# Altium footprint library Common-Parts-Library.PcbLib: 530 footprints (part 22 of 34)
Each footprint in its own frame and in the unit in brackets; x right, y up, seen from the top. Pads: shape width x height; smd on the part's side, far side on the other; paste and mask are expansions set on the pad; w line width, h text height; cw(c..) or ccw(c..) is an arc to the next point about the centre after c.
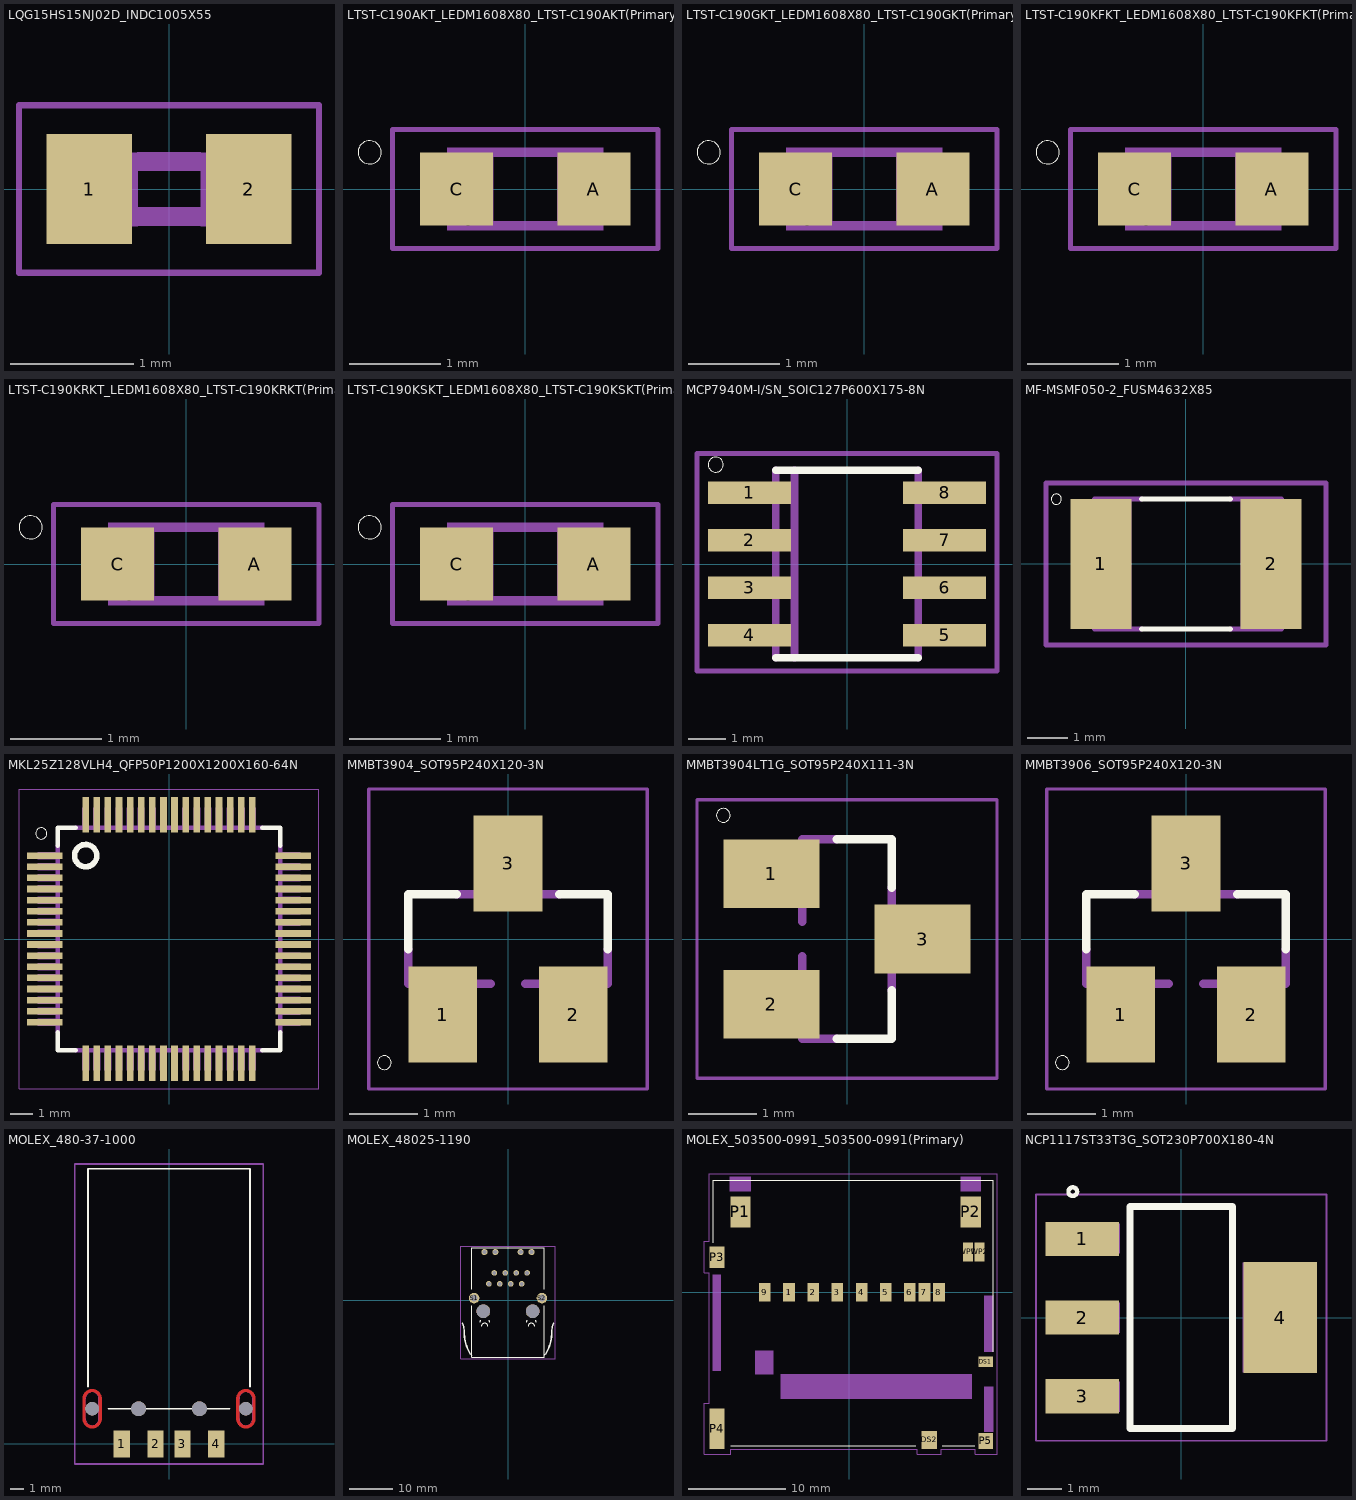
[diagram p21: the footprints below, top view; thin cyan lines are the x and y axes]

## LQG15HS15NJ02D_INDC1005X55 [mm]
pads (2):
  rect 0.7x0.9 smd: 1(-0.65,0) 2(0.65,0)
Mechanical 1:
  region: 0.26,0.295 0.559,0.295 0.559,-0.306 0.26,-0.306
  region: -0.555,0.295 -0.254,0.295 -0.254,-0.306 -0.555,-0.306
  lines w0.051: -1.223,-0.683 -1.223,0.683 1.223,0.683 1.223,-0.683 -1.223,-0.683
  lines w0.152: -0.245,-0.224 0.245,-0.224 ; -0.245,0.224 0.245,0.224

## LTST-C190AKT_LEDM1608X80_LTST-C190AKT(Primary) [mm]
pads (2):
  rect 0.8x0.8 smd: A(0.75,0) C(-0.75,0)
Top Overlay:
  circle w0: c-1.7,0.4 r0.127
Mechanical 1:
  circle w0.051: c-0.625,-0.35 r0.075
  region: 0.551,0.176 0.551,0.275 0.65,0.275 0.65,0.176
  region: 0.55,-0.275 0.55,-0.176 0.651,-0.176 0.651,-0.275
  region: 0.35,-0.275 0.35,0.275 0.575,0.275 0.575,-0.275
  region: 0.351,0.251 0.351,0.449 0.851,0.449 0.851,0.251
  region: 0.35,-0.45 0.35,-0.251 0.851,-0.251 0.851,-0.45
  region: -0.576,-0.451 -0.576,0.451 -0.351,0.451 -0.351,-0.451
  region: -0.851,0.249 -0.851,0.452 -0.552,0.452 -0.552,0.249
  region: -0.726,-0.451 -0.726,-0.4 -0.35,-0.4 -0.35,-0.451
  region: -0.6,-0.275 -0.6,-0.225 -0.55,-0.225 -0.55,-0.275
  region: -0.852,-0.452 -0.852,-0.249 -0.701,-0.249 -0.701,-0.452
  lines w0.05: -1.45,-0.65 -1.45,0.65 1.45,0.65 1.45,-0.65 -1.45,-0.65
  lines w0.051: 0.825,-0.275 cw(c0.825,0) 0.825,0.275
  lines w0.102: -0.8,-0.3 ccw(c-0.826,0) -0.8,0.3 ; -0.375,-0.4 0.35,-0.4 ; -0.35,0.4 0.35,0.4

## LTST-C190GKT_LEDM1608X80_LTST-C190GKT(Primary) [mm]
pads (2):
  rect 0.8x0.8 smd: A(0.75,0) C(-0.75,0)
Top Overlay:
  circle w0: c-1.7,0.4 r0.127
Mechanical 1:
  circle w0.051: c-0.625,-0.35 r0.075
  region: 0.551,0.176 0.551,0.274 0.651,0.274 0.651,0.176
  region: 0.55,-0.275 0.55,-0.176 0.651,-0.176 0.651,-0.275
  region: 0.35,-0.275 0.35,0.275 0.575,0.275 0.575,-0.275
  region: 0.351,0.251 0.351,0.449 0.851,0.449 0.851,0.251
  region: 0.35,-0.45 0.35,-0.251 0.851,-0.251 0.851,-0.45
  region: -0.576,-0.451 -0.576,0.451 -0.351,0.451 -0.351,-0.451
  region: -0.851,0.249 -0.851,0.451 -0.551,0.451 -0.551,0.249
  region: -0.725,-0.45 -0.725,-0.4 -0.35,-0.4 -0.35,-0.45
  region: -0.601,-0.276 -0.601,-0.224 -0.551,-0.224 -0.551,-0.276
  region: -0.851,-0.451 -0.851,-0.25 -0.7,-0.25 -0.7,-0.451
  lines w0.05: -1.45,-0.65 -1.45,0.65 1.45,0.65 1.45,-0.65 -1.45,-0.65
  lines w0.051: 0.825,-0.275 cw(c0.825,0) 0.825,0.275
  lines w0.102: -0.8,-0.3 ccw(c-0.826,0) -0.8,0.3 ; -0.375,-0.4 0.35,-0.4 ; -0.35,0.4 0.35,0.4

## LTST-C190KFKT_LEDM1608X80_LTST-C190KFKT(Primary) [mm]
pads (2):
  rect 0.8x0.8 smd: A(0.75,0) C(-0.75,0)
Top Overlay:
  circle w0: c-1.7,0.4 r0.127
Mechanical 1:
  circle w0.051: c-0.625,-0.35 r0.075
  region: 0.55,0.175 0.55,0.275 0.65,0.275 0.65,0.175
  region: 0.55,-0.275 0.55,-0.176 0.651,-0.176 0.651,-0.275
  region: 0.35,-0.275 0.35,0.275 0.575,0.275 0.575,-0.275
  region: 0.351,0.251 0.351,0.45 0.85,0.45 0.85,0.251
  region: 0.35,-0.45 0.35,-0.251 0.851,-0.251 0.851,-0.45
  region: -0.576,-0.451 -0.576,0.451 -0.351,0.451 -0.351,-0.451
  region: -0.851,0.249 -0.851,0.451 -0.551,0.451 -0.551,0.249
  region: -0.726,-0.451 -0.726,-0.4 -0.35,-0.4 -0.35,-0.451
  region: -0.601,-0.276 -0.601,-0.225 -0.55,-0.225 -0.55,-0.276
  region: -0.851,-0.451 -0.851,-0.25 -0.7,-0.25 -0.7,-0.451
  lines w0.05: -1.45,-0.65 -1.45,0.65 1.45,0.65 1.45,-0.65 -1.45,-0.65
  lines w0.051: 0.825,-0.275 cw(c0.825,0) 0.825,0.275
  lines w0.102: -0.8,-0.3 ccw(c-0.826,0) -0.8,0.3 ; -0.375,-0.4 0.35,-0.4 ; -0.35,0.4 0.35,0.4

## LTST-C190KRKT_LEDM1608X80_LTST-C190KRKT(Primary) [mm]
pads (2):
  rect 0.8x0.8 smd: A(0.75,0) C(-0.75,0)
Top Overlay:
  circle w0: c-1.7,0.4 r0.127
Mechanical 1:
  circle w0.051: c-0.625,-0.35 r0.075
  region: 0.551,0.176 0.551,0.275 0.65,0.275 0.65,0.176
  region: 0.55,-0.275 0.55,-0.176 0.651,-0.176 0.651,-0.275
  region: 0.35,-0.275 0.35,0.275 0.575,0.275 0.575,-0.275
  region: 0.351,0.251 0.351,0.449 0.851,0.449 0.851,0.251
  region: 0.35,-0.45 0.35,-0.251 0.851,-0.251 0.851,-0.45
  region: -0.575,-0.45 -0.575,0.45 -0.35,0.45 -0.35,-0.45
  region: -0.851,0.249 -0.851,0.452 -0.552,0.452 -0.552,0.249
  region: -0.727,-0.452 -0.727,-0.4 -0.35,-0.4 -0.35,-0.452
  region: -0.601,-0.276 -0.601,-0.224 -0.551,-0.224 -0.551,-0.276
  region: -0.85,-0.45 -0.85,-0.25 -0.7,-0.25 -0.7,-0.45
  lines w0.05: -1.45,-0.65 -1.45,0.65 1.45,0.65 1.45,-0.65 -1.45,-0.65
  lines w0.051: 0.825,-0.275 cw(c0.825,0) 0.825,0.275
  lines w0.102: -0.8,-0.3 ccw(c-0.826,0) -0.8,0.3 ; -0.375,-0.4 0.35,-0.4 ; -0.35,0.4 0.35,0.4

## LTST-C190KSKT_LEDM1608X80_LTST-C190KSKT(Primary) [mm]
pads (2):
  rect 0.8x0.8 smd: A(0.75,0) C(-0.75,0)
Top Overlay:
  circle w0: c-1.7,0.4 r0.127
Mechanical 1:
  circle w0.051: c-0.625,-0.35 r0.075
  region: 0.551,0.176 0.551,0.275 0.65,0.275 0.65,0.176
  region: 0.55,-0.275 0.55,-0.176 0.651,-0.176 0.651,-0.275
  region: 0.35,-0.275 0.35,0.275 0.575,0.275 0.575,-0.275
  region: 0.351,0.251 0.351,0.45 0.85,0.45 0.85,0.251
  region: 0.35,-0.45 0.35,-0.251 0.851,-0.251 0.851,-0.45
  region: -0.577,-0.452 -0.577,0.451 -0.351,0.451 -0.351,-0.452
  region: -0.851,0.249 -0.851,0.452 -0.552,0.452 -0.552,0.249
  region: -0.726,-0.451 -0.726,-0.4 -0.35,-0.4 -0.35,-0.451
  region: -0.6,-0.275 -0.6,-0.225 -0.55,-0.225 -0.55,-0.275
  region: -0.85,-0.45 -0.85,-0.25 -0.7,-0.25 -0.7,-0.45
  lines w0.05: -1.45,-0.65 -1.45,0.65 1.45,0.65 1.45,-0.65 -1.45,-0.65
  lines w0.051: 0.825,-0.275 cw(c0.825,0) 0.825,0.275
  lines w0.102: -0.8,-0.3 ccw(c-0.826,0) -0.8,0.3 ; -0.375,-0.4 0.35,-0.4 ; -0.35,0.4 0.35,0.4

## MCP7940M-I/SN_SOIC127P600X175-8N [mm]
pads (8):
  rect 2.2x0.6 smd: 1(-2.6,1.905) 2(-2.6,0.635) 3(-2.6,-0.635) 4(-2.6,-1.905) 5(2.6,-1.905) 6(2.6,-0.635) 7(2.6,0.635) 8(2.6,1.905)
Top Overlay:
  circle w0: c-3.5,2.65 r0.2
  lines w0.203: -1.9,-2.5 1.9,-2.5 ; -1.9,2.5 1.9,2.5
Mechanical 1:
  region: 3.101,2.149 3.101,1.664 2.004,1.664 2.004,2.149
  region: 3.102,0.878 3.102,0.392 2.002,0.392 2.002,0.878
  region: 3.103,-0.393 3.103,-0.879 2.001,-0.879 2.001,-0.393
  region: 3.107,-1.667 3.107,-2.15 2,-2.15 2,-1.667
  region: -2,-1.66 -2,-2.156 -3.106,-2.156 -3.106,-1.66
  region: -2.001,-0.389 -2.001,-0.883 -3.103,-0.883 -3.103,-0.389
  region: -2.004,0.884 -2.004,0.386 -3.104,0.386 -3.104,0.884
  region: -2.003,2.153 -2.003,1.659 -3.101,1.659 -3.101,2.153
  lines w0.127: -4,-2.85 -4,2.95 4,2.95 4,-2.85 -4,-2.85
  lines w0.203: -1.9,-2.5 -1.9,2.5 ; -1.4,-2.5 -1.4,2.5 ; 1.9,-2.5 1.9,2.5

## MF-MSMF050-2_FUSM4632X85 [mm]
pads (2):
  rect 1.5x3.2 smd: 1(-2.1,0) 2(2.1,0)
Top Overlay:
  circle w0: c-3.2,1.6 r0.127
  lines w0.127: -1.1,-1.6 1.1,-1.6 ; -1.1,1.6 1.1,1.6
Mechanical 1:
  region: 1.35,1.6 1.35,-1.6 2.35,-1.6 2.35,-0.5 2.337,-0.5 2.311,-0.499 2.285,-0.496 2.259,-0.492 2.233,-0.486 2.208,-0.48 2.183,-0.471 2.159,-0.462 2.135,-0.451 2.111,-0.44 2.089,-0.426 2.067,-0.412 2.046,-0.397 2.025,-0.38 2.006,-0.363 1.987,-0.344 1.97,-0.325 1.953,-0.304 1.938,-0.283 1.924,-0.261 1.91,-0.239 1.899,-0.215 1.888,-0.191 1.879,-0.167 1.87,-0.142 1.864,-0.117 1.858,-0.091 1.854,-0.065 1.851,-0.039 1.85,-0.013 1.85,0 1.85,0.013 1.851,0.039 1.854,0.065 1.858,0.091 1.864,0.117 1.87,0.142 1.879,0.167 1.888,0.191 1.899,0.215 1.91,0.239 1.924,0.261 1.938,0.283 1.953,0.304 1.97,0.325 1.987,0.344 2.006,0.363 2.025,0.38 2.046,0.397 2.067,0.412 2.089,0.426 2.111,0.44 2.135,0.451 2.159,0.462 2.183,0.471 2.208,0.48 2.233,0.486 2.259,0.492 2.285,0.496 2.311,0.499 2.337,0.5 2.35,0.5 2.35,1.6
  region: -1.35,1.6 -2.25,1.6 -2.25,0.5 -2.237,0.5 -2.211,0.499 -2.185,0.496 -2.159,0.492 -2.133,0.486 -2.108,0.48 -2.083,0.471 -2.059,0.462 -2.035,0.451 -2.011,0.44 -1.989,0.426 -1.967,0.412 -1.946,0.397 -1.925,0.38 -1.906,0.363 -1.887,0.344 -1.87,0.325 -1.853,0.304 -1.838,0.283 -1.824,0.261 -1.81,0.239 -1.799,0.215 -1.788,0.191 -1.779,0.167 -1.77,0.142 -1.764,0.117 -1.758,0.091 -1.754,0.065 -1.751,0.039 -1.75,0.013 -1.75,0 -1.75,-0.013 -1.751,-0.039 -1.754,-0.065 -1.758,-0.091 -1.764,-0.117 -1.77,-0.142 -1.779,-0.167 -1.788,-0.191 -1.799,-0.215 -1.81,-0.239 -1.824,-0.261 -1.838,-0.283 -1.853,-0.304 -1.87,-0.325 -1.887,-0.344 -1.906,-0.363 -1.925,-0.38 -1.946,-0.397 -1.967,-0.412 -1.989,-0.426 -2.011,-0.44 -2.035,-0.451 -2.059,-0.462 -2.083,-0.471 -2.108,-0.48 -2.133,-0.486 -2.159,-0.492 -2.185,-0.496 -2.211,-0.499 -2.237,-0.5 -2.25,-0.5 -2.25,-1.6 -1.35,-1.6
  lines w0.127: -1.1,-1.6 -2.25,-1.6 -2.25,-0.5 ccw(c-2.25,0) -2.25,0.5 -2.25,1.6 -1.1,1.6 ; 1.1,-1.6 2.35,-1.6 2.35,-0.5 cw(c2.35,0) 2.35,0.5 2.35,1.6 1.1,1.6 ; -3.45,-2 3.45,-2 3.45,2 -3.45,2 -3.45,-2

## MKL25Z128VLH4_QFP50P1200X1200X160-64N [mm]
pads (64):
  rect 1.6x0.3 smd: 1(-5.6,3.75) 2(-5.6,3.25) 3(-5.6,2.75) 4(-5.6,2.25) 5(-5.6,1.75) 6(-5.6,1.25) 7(-5.6,0.75) 8(-5.6,0.25) 9(-5.6,-0.25) 10(-5.6,-0.75) 11(-5.6,-1.25) 12(-5.6,-1.75) 13(-5.6,-2.25) 14(-5.6,-2.75) 15(-5.6,-3.25) 16(-5.6,-3.75) 33(5.6,-3.75) 34(5.6,-3.25) 35(5.6,-2.75) 36(5.6,-2.25) 37(5.6,-1.75) 38(5.6,-1.25) 39(5.6,-0.75) 40(5.6,-0.25) 41(5.6,0.25) 42(5.6,0.75) 43(5.6,1.25) 44(5.6,1.75) 45(5.6,2.25) 46(5.6,2.75) 47(5.6,3.25) 48(5.6,3.75)
  rect 0.3x1.6 smd: 17(-3.75,-5.6) 18(-3.25,-5.6) 19(-2.75,-5.6) 20(-2.25,-5.6) 21(-1.75,-5.6) 22(-1.25,-5.6) 23(-0.75,-5.6) 24(-0.25,-5.6) 25(0.25,-5.6) 26(0.75,-5.6) 27(1.25,-5.6) 28(1.75,-5.6) 29(2.25,-5.6) 30(2.75,-5.6) 31(3.25,-5.6) 32(3.75,-5.6) 49(3.75,5.6) 50(3.25,5.6) 51(2.75,5.6) 52(2.25,5.6) 53(1.75,5.6) 54(1.25,5.6) 55(0.75,5.6) 56(0.25,5.6) 57(-0.25,5.6) 58(-0.75,5.6) 59(-1.25,5.6) 60(-1.75,5.6) 61(-2.25,5.6) 62(-2.75,5.6) 63(-3.25,5.6) 64(-3.75,5.6)
Top Overlay:
  circle w0: c-5.75,4.75 r0.254
  circle w0.254: c-3.75,3.75 r0.5
  lines w0.203: -5,-4.2 -5,-5 -4.2,-5 ; -5,4.2 -5,5 -4.2,5 ; 4.2,-5 5,-5 5,-4.2 ; 4.2,5 5,5 5,4.2
Mechanical 1:
  drawing of 72 lines, arcs and shapes, not listed

## MMBT3904_SOT95P240X120-3N [mm]
pads (3):
  rect 1x1.4 smd: 1(-0.95,-1.1) 2(0.95,-1.1) 3(0,1.1)
Top Overlay:
  circle w0: c-1.8,-1.8 r0.1
  lines w0.127: -1.45,-0.15 -1.45,0.65 -0.75,0.65 ; 0.75,0.65 1.45,0.65 1.45,-0.15
Mechanical 1:
  region: -1.171,-0.711 -0.711,-0.711 -0.711,-1.298 -1.171,-1.298
  region: 0.713,-0.711 1.168,-0.711 1.168,-1.298 0.713,-1.298
  region: -0.229,1.295 0.229,1.295 0.229,0.712 -0.229,0.712
  lines w0.051: -2.023,-2.183 -2.023,2.183 2.023,2.183 2.023,-2.183 -2.023,-2.183
  lines w0.127: -1.45,-0.15 -1.45,-0.65 -0.25,-0.65 ; -0.75,0.65 0.75,0.65 ; 0.25,-0.65 1.45,-0.65 1.45,-0.15

## MMBT3904LT1G_SOT95P240X111-3N [mm]
pads (3):
  rect 1.4x1 smd: 1(-1.1,0.95) 2(-1.1,-0.95) 3(1.1,0)
Top Overlay:
  circle w0: c-1.8,1.8 r0.1
  lines w0.127: -0.15,-1.45 0.65,-1.45 0.65,-0.75 ; -0.15,1.45 0.65,1.45 0.65,0.75
Mechanical 1:
  region: -0.713,1.171 -0.713,0.711 -1.296,0.711 -1.296,1.171
  region: -0.711,-0.711 -0.711,-1.171 -1.298,-1.171 -1.298,-0.711
  region: 1.296,0.228 1.296,-0.228 0.712,-0.228 0.712,0.228
  lines w0.051: -2.183,-2.023 2.183,-2.023 2.183,2.023 -2.183,2.023 -2.183,-2.023
  lines w0.127: -0.65,-0.25 -0.65,-1.45 -0.15,-1.45 ; -0.65,0.25 -0.65,1.45 -0.15,1.45 ; 0.65,-0.75 0.65,0.75

## MMBT3906_SOT95P240X120-3N [mm]
pads (3):
  rect 1x1.4 smd: 1(-0.95,-1.1) 2(0.95,-1.1) 3(0,1.1)
Top Overlay:
  circle w0: c-1.8,-1.8 r0.1
  lines w0.127: -1.45,-0.15 -1.45,0.65 -0.75,0.65 ; 0.75,0.65 1.45,0.65 1.45,-0.15
Mechanical 1:
  region: -1.171,-0.711 -0.711,-0.711 -0.711,-1.298 -1.171,-1.298
  region: 0.713,-0.711 1.168,-0.711 1.168,-1.299 0.713,-1.299
  region: -0.229,1.295 0.229,1.295 0.229,0.713 -0.229,0.713
  lines w0.051: -2.023,-2.183 -2.023,2.183 2.023,2.183 2.023,-2.183 -2.023,-2.183
  lines w0.127: -1.45,-0.15 -1.45,-0.65 -0.25,-0.65 ; -0.75,0.65 0.75,0.65 ; 0.25,-0.65 1.45,-0.65 1.45,-0.15

## MOLEX_480-37-1000 [mm]
pads (8):
  rect 1.2x2 smd: 1(-3.5,0) 2(-1,0) 3(1,0) 4(3.5,0)
  round 1 hole 1 unplated: None(-5.7,2.6) None(5.7,2.6)
  round 1.1 hole 1.1 unplated: None(-2.25,2.6) None(2.25,2.6)
Top Layer:
  region: -5.7,3.85 -5.7,4.05 -5.682,4.05 -5.645,4.048 -5.609,4.044 -5.572,4.039 -5.537,4.031 -5.501,4.021 -5.466,4.01 -5.432,3.997 -5.399,3.982 -5.366,3.965 -5.334,3.947 -5.303,3.927 -5.274,3.906 -5.245,3.882 -5.218,3.858 -5.192,3.832 -5.168,3.805 -5.144,3.776 -5.123,3.747 -5.103,3.716 -5.085,3.684 -5.068,3.651 -5.053,3.618 -5.04,3.584 -5.029,3.549 -5.019,3.513 -5.011,3.478 -5.006,3.441 -5.002,3.405 -5,3.368 -5,3.35 -5,1.85 -5,1.832 -5.002,1.795 -5.006,1.759 -5.011,1.722 -5.019,1.687 -5.029,1.651 -5.04,1.616 -5.053,1.582 -5.068,1.549 -5.085,1.516 -5.103,1.484 -5.123,1.453 -5.144,1.424 -5.168,1.395 -5.192,1.368 -5.218,1.342 -5.245,1.318 -5.274,1.294 -5.303,1.273 -5.334,1.253 -5.366,1.235 -5.399,1.218 -5.432,1.203 -5.466,1.19 -5.501,1.179 -5.537,1.169 -5.572,1.161 -5.609,1.156 -5.645,1.152 -5.682,1.15 -5.7,1.15 -5.7,1.35 -5.687,1.35 -5.661,1.351 -5.635,1.354 -5.609,1.358 -5.583,1.364 -5.558,1.37 -5.533,1.379 -5.509,1.388 -5.485,1.399 -5.461,1.41 -5.439,1.424 -5.417,1.438 -5.396,1.453 -5.375,1.47 -5.356,1.487 -5.337,1.506 -5.32,1.525 -5.303,1.546 -5.288,1.567 -5.274,1.589 -5.26,1.611 -5.249,1.635 -5.238,1.659 -5.229,1.683 -5.22,1.708 -5.214,1.733 -5.208,1.759 -5.204,1.785 -5.201,1.811 -5.2,1.837 -5.2,1.85 -5.2,3.35 -5.2,3.363 -5.201,3.389 -5.204,3.415 -5.208,3.441 -5.214,3.467 -5.22,3.492 -5.229,3.517 -5.238,3.541 -5.249,3.565 -5.26,3.589 -5.274,3.611 -5.288,3.633 -5.303,3.654 -5.32,3.675 -5.337,3.694 -5.356,3.713 -5.375,3.73 -5.396,3.747 -5.417,3.762 -5.439,3.776 -5.461,3.79 -5.485,3.801 -5.509,3.812 -5.533,3.821 -5.558,3.83 -5.583,3.836 -5.609,3.842 -5.635,3.846 -5.661,3.849 -5.687,3.85
  region: -5.7,1.35 -5.7,1.15 -5.718,1.15 -5.755,1.152 -5.791,1.156 -5.828,1.161 -5.863,1.169 -5.899,1.179 -5.934,1.19 -5.968,1.203 -6.001,1.218 -6.034,1.235 -6.066,1.253 -6.097,1.273 -6.126,1.294 -6.155,1.318 -6.182,1.342 -6.208,1.368 -6.232,1.395 -6.256,1.424 -6.277,1.453 -6.297,1.484 -6.315,1.516 -6.332,1.549 -6.347,1.582 -6.36,1.616 -6.371,1.651 -6.381,1.687 -6.389,1.722 -6.394,1.759 -6.398,1.795 -6.4,1.832 -6.4,1.85 -6.4,3.35 -6.4,3.368 -6.398,3.405 -6.394,3.441 -6.389,3.478 -6.381,3.513 -6.371,3.549 -6.36,3.584 -6.347,3.618 -6.332,3.651 -6.315,3.684 -6.297,3.716 -6.277,3.747 -6.256,3.776 -6.232,3.805 -6.208,3.832 -6.182,3.858 -6.155,3.882 -6.126,3.906 -6.097,3.927 -6.066,3.947 -6.034,3.965 -6.001,3.982 -5.968,3.997 -5.934,4.01 -5.899,4.021 -5.863,4.031 -5.828,4.039 -5.791,4.044 -5.755,4.048 -5.718,4.05 -5.7,4.05 -5.7,3.85 -5.713,3.85 -5.739,3.849 -5.765,3.846 -5.791,3.842 -5.817,3.836 -5.842,3.83 -5.867,3.821 -5.891,3.812 -5.915,3.801 -5.939,3.79 -5.961,3.776 -5.983,3.762 -6.004,3.747 -6.025,3.73 -6.044,3.713 -6.063,3.694 -6.08,3.675 -6.097,3.654 -6.112,3.633 -6.126,3.611 -6.14,3.589 -6.151,3.565 -6.162,3.541 -6.171,3.517 -6.18,3.492 -6.186,3.467 -6.192,3.441 -6.196,3.415 -6.199,3.389 -6.2,3.363 -6.2,3.35 -6.2,1.85 -6.2,1.837 -6.199,1.811 -6.196,1.785 -6.192,1.759 -6.186,1.733 -6.18,1.708 -6.171,1.683 -6.162,1.659 -6.151,1.635 -6.14,1.611 -6.126,1.589 -6.112,1.567 -6.097,1.546 -6.08,1.525 -6.063,1.506 -6.044,1.487 -6.025,1.47 -6.004,1.453 -5.983,1.438 -5.961,1.424 -5.939,1.41 -5.915,1.399 -5.891,1.388 -5.867,1.379 -5.842,1.37 -5.817,1.364 -5.791,1.358 -5.765,1.354 -5.739,1.351 -5.713,1.35
  region: 5.7,3.85 5.7,4.05 5.718,4.05 5.755,4.048 5.791,4.044 5.828,4.039 5.863,4.031 5.899,4.021 5.934,4.01 5.968,3.997 6.001,3.982 6.034,3.965 6.066,3.947 6.097,3.927 6.126,3.906 6.155,3.882 6.182,3.858 6.208,3.832 6.232,3.805 6.256,3.776 6.277,3.747 6.297,3.716 6.315,3.684 6.332,3.651 6.347,3.618 6.36,3.584 6.371,3.549 6.381,3.513 6.389,3.478 6.394,3.441 6.398,3.405 6.4,3.368 6.4,3.35 6.4,1.85 6.4,1.832 6.398,1.795 6.394,1.759 6.389,1.722 6.381,1.687 6.371,1.651 6.36,1.616 6.347,1.582 6.332,1.549 6.315,1.516 6.297,1.484 6.277,1.453 6.256,1.424 6.232,1.395 6.208,1.368 6.182,1.342 6.155,1.318 6.126,1.294 6.097,1.273 6.066,1.253 6.034,1.235 6.001,1.218 5.968,1.203 5.934,1.19 5.899,1.179 5.863,1.169 5.828,1.161 5.791,1.156 5.755,1.152 5.718,1.15 5.7,1.15 5.7,1.35 5.713,1.35 5.739,1.351 5.765,1.354 5.791,1.358 5.817,1.364 5.842,1.37 5.867,1.379 5.891,1.388 5.915,1.399 5.939,1.41 5.961,1.424 5.983,1.438 6.004,1.453 6.025,1.47 6.044,1.487 6.063,1.506 6.08,1.525 6.097,1.546 6.112,1.567 6.126,1.589 6.14,1.611 6.151,1.635 6.162,1.659 6.171,1.683 6.18,1.708 6.186,1.733 6.192,1.759 6.196,1.785 6.199,1.811 6.2,1.837 6.2,1.85 6.2,3.35 6.2,3.363 6.199,3.389 6.196,3.415 6.192,3.441 6.186,3.467 6.18,3.492 6.171,3.517 6.162,3.541 6.151,3.565 6.14,3.589 6.126,3.611 6.112,3.633 6.097,3.654 6.08,3.675 6.063,3.694 6.044,3.713 6.025,3.73 6.004,3.747 5.983,3.762 5.961,3.776 5.939,3.79 5.915,3.801 5.891,3.812 5.867,3.821 5.842,3.83 5.817,3.836 5.791,3.842 5.765,3.846 5.739,3.849 5.713,3.85
  region: 5.7,1.35 5.7,1.15 5.682,1.15 5.645,1.152 5.609,1.156 5.572,1.161 5.537,1.169 5.501,1.179 5.466,1.19 5.432,1.203 5.399,1.218 5.366,1.235 5.334,1.253 5.303,1.273 5.274,1.294 5.245,1.318 5.218,1.342 5.192,1.368 5.168,1.395 5.144,1.424 5.123,1.453 5.103,1.484 5.085,1.516 5.068,1.549 5.053,1.582 5.04,1.616 5.029,1.651 5.019,1.687 5.011,1.722 5.006,1.759 5.002,1.795 5,1.832 5,1.85 5,3.35 5,3.368 5.002,3.405 5.006,3.441 5.011,3.478 5.019,3.513 5.029,3.549 5.04,3.584 5.053,3.618 5.068,3.651 5.085,3.684 5.103,3.716 5.123,3.747 5.144,3.776 5.168,3.805 5.192,3.832 5.218,3.858 5.245,3.882 5.274,3.906 5.303,3.927 5.334,3.947 5.366,3.965 5.399,3.982 5.432,3.997 5.466,4.01 5.501,4.021 5.537,4.031 5.572,4.039 5.609,4.044 5.645,4.048 5.682,4.05 5.7,4.05 5.7,3.85 5.687,3.85 5.661,3.849 5.635,3.846 5.609,3.842 5.583,3.836 5.558,3.83 5.533,3.821 5.509,3.812 5.485,3.801 5.461,3.79 5.439,3.776 5.417,3.762 5.396,3.747 5.375,3.73 5.356,3.713 5.337,3.694 5.32,3.675 5.303,3.654 5.288,3.633 5.274,3.611 5.26,3.589 5.249,3.565 5.238,3.541 5.229,3.517 5.22,3.492 5.214,3.467 5.208,3.441 5.204,3.415 5.201,3.389 5.2,3.363 5.2,3.35 5.2,1.85 5.2,1.837 5.201,1.811 5.204,1.785 5.208,1.759 5.214,1.733 5.22,1.708 5.229,1.683 5.238,1.659 5.249,1.635 5.26,1.611 5.274,1.589 5.288,1.567 5.303,1.546 5.32,1.525 5.337,1.506 5.356,1.487 5.375,1.47 5.396,1.453 5.417,1.438 5.439,1.424 5.461,1.41 5.485,1.399 5.509,1.388 5.533,1.379 5.558,1.37 5.583,1.364 5.609,1.358 5.635,1.354 5.661,1.351 5.687,1.35
Top Overlay:
  lines w0.127: -6,4.25 -6,20.4 6,20.4 6,4.25 ; -4.5,2.6 4.5,2.6
Bottom Overlay:
  circle w0: c-5,-0.75 r0.254
Top Paste:
  drawing of 4 lines, arcs and shapes, not listed
Top Solder:
  region: -4.9,1.053 -6.521,1.053 -6.521,4.15 -4.9,4.15
  region: 6.5,1.052 4.908,1.052 4.908,4.15 6.5,4.15
Mechanical 1:
  lines w0.01: -6.2,1.85 ccw(c-5.7,1.85) -5.7,1.35 ccw(c-5.7,1.85) -5.2,1.85 -5.2,3.35 ccw(c-5.7,3.35) -5.7,3.85 ccw(c-5.7,3.35) -6.2,3.35 -6.2,1.85 ; 5.2,1.85 ccw(c5.7,1.85) 5.7,1.35 ccw(c5.7,1.85) 6.2,1.85 6.2,3.35 ccw(c5.7,3.35) 5.7,3.85 ccw(c5.7,3.35) 5.2,3.35 5.2,1.85
  lines w0.127: -7,-1.5 -7,20.75 7,20.75 7,-1.5 -7,-1.5

## MOLEX_48025-1190 [mm]
pads (16):
  round 1.3 hole 0.9: 1(4.445,6.35) 2(3.175,3.81) 3(1.905,6.35) 4(0.635,3.81) 5(-0.635,6.35) 6(-1.905,3.81) 7(-3.175,6.35) 8(-4.445,3.81)
  round 1.422 hole 1: 9(5.465,11.18) 10(2.925,11.18) 11(-2.925,11.18) 12(-5.465,11.18)
  round 3.18 hole 3.18 unplated: None(-5.715,-2.54) None(5.715,-2.54)
  round 2.445 hole 1.63: S1(-7.87,0.51) S2(7.87,0.51)
Top Overlay:
  lines w0.203: -10.586,-5.448 cw(c-10.528,-5.402) -10.482,-5.344 ; -10.583,-5.453 cw(c-11.758,-6.371) -10.272,-6.501 ; -10.378,-5.481 cw(c-11.357,-6.219) -10.132,-6.176 ; -10.269,-6.468 ccw(c-0.585,-7.315) -8.829,-12.466 ; -10.134,-6.979 ccw(c-22.44,-6.549) -10.134,-6.119 ; -10.13,-6.865 ccw(c-0.176,-7.213) -8.434,-12.783 ; -8.405,-1.27 -8.405,-13.24 8.405,-13.24 8.405,-1.27 ; -8.405,2.54 -8.405,12.16 8.405,12.16 8.405,2.54 ; -6.577,-5.043 cw(c-6.286,-5.053) -6.296,-4.762 ; -6.157,-6.052 cw(c-5.405,-6.078) -4.653,-6.052 ; -4.479,-4.762 cw(c-4.489,-5.053) -4.198,-5.043 ; 4.198,-5.043 cw(c4.489,-5.053) 4.479,-4.762 ; 4.653,-6.052 cw(c5.405,-6.078) 6.157,-6.052 ; 6.296,-4.762 cw(c6.286,-5.053) 6.577,-5.043 ; 8.434,-12.783 ccw(c0.176,-7.213) 10.13,-6.865 ; 8.829,-12.466 ccw(c0.585,-7.315) 10.269,-6.468 ; 10.132,-6.176 cw(c11.357,-6.219) 10.378,-5.481 ; 10.134,-6.979 cw(c22.44,-6.549) 10.134,-6.119 ; 10.272,-6.501 cw(c11.758,-6.371) 10.583,-5.453 ; 10.482,-5.344 cw(c10.528,-5.402) 10.586,-5.448
Mechanical 1:
  lines w0.127: -11,-13.5 -11,12.5 11,12.5 11,-13.5 -11,-13.5

## MOLEX_503500-0991_503500-0991(Primary) [mm]
pads (18):
  rect 1.2x1.95 smd: 1(-6.25,0) 2(-3.75,0) 3(-1.25,0) 4(1.25,0) 5(3.75,0) 6(6.25,0) 7(7.75,0) 8(9.25,0) 9(-8.75,0)
  rect 1.5x1.1 smd: DS1(14.095,-7.205)
  rect 1.6x1.87 smd: DS2(8.225,-15.26)
  rect 2.1x3.2 smd: P1(-11.275,8.305) P2(12.525,8.305)
  rect 1.55x2.2 smd: P3(-13.68,3.625)
  rect 1.55x4.17 smd: P4(-13.68,-14.11)
  rect 1.5x1.65 smd: P5(14.095,-15.37)
  rect 1x2 smd: WP1(12.245,4.165) WP2(13.445,4.165)
Top Overlay:
  lines w0.127: -14.105,5.13 -14.105,11.555 14.845,11.555 14.845,-6.145 ; -12.26,-15.845 6.85,-15.845 ; 9.565,-15.845 12.925,-15.845
Mechanical 1:
  region: 13.908,-9.755 14.845,-9.755 14.845,-14.413 13.908,-14.413
  region: 13.927,-0.385 14.845,-0.385 14.845,-6.139 13.927,-6.139
  region: -14.123,1.825 -13.305,1.825 -13.305,-8.105 -14.123,-8.105
  region: 11.509,11.955 13.575,11.955 13.575,10.436 11.509,10.436
  region: -12.355,11.955 -10.225,11.955 -10.225,10.43 -12.355,10.43
  region: -7.113,-8.475 12.635,-8.475 12.635,-10.988 -7.113,-10.988
  region: -9.725,-6.075 -7.895,-6.075 -7.895,-8.497 -9.725,-8.497
  lines w0.127: -15,-16.75 -12.25,-16.75 -12.25,-16.25 7,-16.25 7,-16.75 9.5,-16.75 9.5,-16.25 13,-16.25 13,-16.75 15.25,-16.75 15.25,12.25 -14.5,12.25 -14.5,5.25 -15,5.25 -15,2 -14.5,2 -14.5,-11.5 -15,-11.5 -15,-16.75

## NCP1117ST33T3G_SOT230P700X180-4N [mm]
pads (4):
  rect 2.15x1 smd: 1(-2.9,2.3) 2(-2.9,0) 3(-2.9,-2.3)
  rect 2.15x3.25 smd: 4(2.9,0)
Top Overlay:
  circle w0.127: c-3.175,3.683 r0.127
  lines w0.203: -1.5,-3.25 -1.5,3.25 1.5,3.25 1.5,-3.25 -1.5,-3.25
Mechanical 1:
  region: -1.803,-1.88 -1.803,-2.754 -3.669,-2.754 -3.669,-1.88
  region: -1.807,2.747 -1.807,1.878 -3.659,1.878 -3.659,2.747
  region: -1.805,0.433 -1.805,-0.434 -3.66,-0.434 -3.66,0.433
  region: 3.658,1.599 3.658,-1.6 1.803,-1.6 1.803,1.599
  region: -1.803,-1.88 -1.803,-2.749 -3.663,-2.749 -3.663,-1.88
  region: -1.807,2.747 -1.807,1.878 -3.659,1.878 -3.659,2.747
  region: -1.807,0.436 -1.807,-0.439 -3.665,-0.439 -3.665,0.436
  region: 3.66,1.598 3.66,-1.6 1.804,-1.6 1.804,1.598
  lines w0.05: -4.25,-3.6 -4.25,3.6 4.25,3.6 4.25,-3.6 -4.25,-3.6